# Altium footprint library vga.PcbLib: 95 footprints (part 7 of 7)
Each footprint in its own frame and in the unit in brackets; x right, y up, seen from the top. Pads: shape width x height; smd on the part's side, far side on the other; paste and mask are expansions set on the pad; w line width, h text height; cw(c..) or ccw(c..) is an arc to the next point about the centre after c.
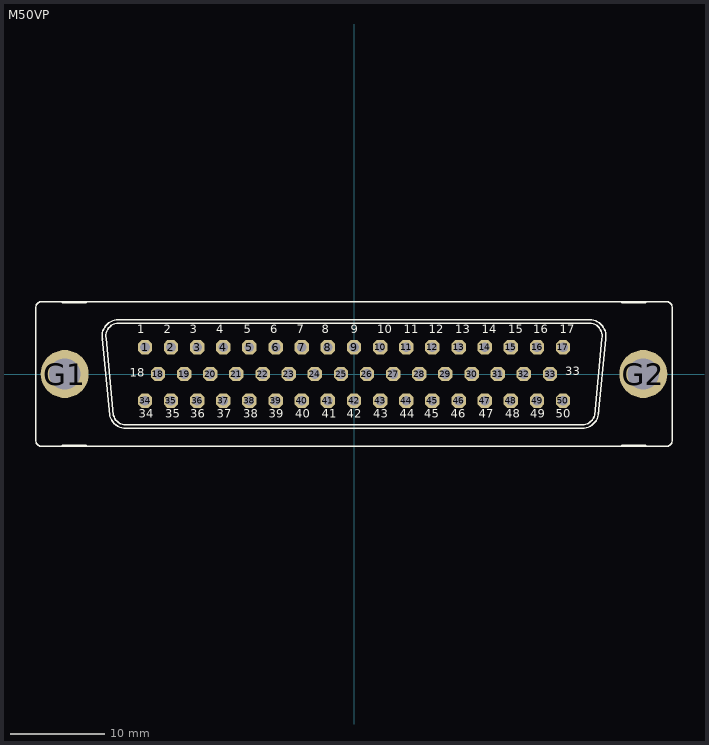
[diagram p6: the footprint, top view; thin cyan lines are the x and y axes]

## M50VP [mil]
pads (52):
  oct 60x60 hole 40: 1(-869,112) 2(-761,112) 3(-652,112) 4(-543,112) 5(-435,112) 6(-326,112) 7(-217,112) 8(-109,112) 9(0,112) 10(109,112) 11(217,112) 12(326,112) 13(435,112) 14(543,112) 15(652,112) 16(761,112) 17(869,112) 18(-815,0) 19(-706,0) 20(-598,0) 21(-489,0) 22(-380,0) 23(-272,0) 24(-163,0) 25(-54,0) 26(54,0) 27(163,0) 28(272,0) 29(380,0) 30(489,0) 31(598,0) 32(706,0) 33(815,0) 34(-869,-112) 35(-761,-112) 36(-652,-112) 37(-543,-112) 38(-435,-112) 39(-326,-112) 40(-217,-112) 41(-109,-112) 42(0,-112) 43(109,-112) 44(217,-112) 45(326,-112) 46(435,-112) 47(543,-112) 48(652,-112) 49(761,-112) 50(869,-112)
  round 200 hole 130: G1(-1203,0) G2(1203,0)
Top Overlay:
  circle w6: c-1203,0 r65
  circle w6: c1203,0 r65
  lines w6: -1046,148 -1015,-172 ; -1045.68,145 cw(c-979.14,158.17) -979,226 979,226 cw(c979.29,158.03) 1046,145 ; -1031,148 -1000,-172 ; -1030.97,148 cw(c-979.16,158.2) -979,211 979,211 cw(c979.22,158.06) 1031,147 1000,-171 ; -1016.4,-166.99 ccw(c-949,-158) -949,-226 949,-226 ccw(c949.04,-157.94) 1017,-161.7 ; -1000.3,-171.33 ccw(c-949,-158) -949,-211 949,-211 ccw(c949.23,-157.7) 1001,-170.37 ; 1016,-169 1046,147 ; -1213,-301 -1213,-296 -1113,-296 -1113,-301 ; -1213,-301 -1113,-301 ; -1213,-301 -1298,-301 cw(c-1298,-276) -1323,-276 -1323,276 cw(c-1298,276) -1298,301 -1213,301 ; -1213,301 -1213,296 -1113,296 -1113,301 ; -1213,301 -1113,301 ; -1113,-301 1113,-301 ; -1113,301 1113,301 ; 1113,-301 1113,-296 1213,-296 1213,-301 ; 1113,-301 1213,-301 ; 1113,301 1113,296 1213,296 1213,301 ; 1113,301 1213,301 ; 1213,-301 1298,-301 ccw(c1298,-276) 1323,-276 1323,276 ccw(c1298,276) 1298,301 1213,301
  text "9" at -14,156 h60.45
  text "42" at -30,-194 h60.45
  text "17" at 856,156 h60.45
  text "16" at 746,156 h60.45
  text "15" at 641,156 h60.45
  text "14" at 531,156 h60.45
  text "13" at 421,156 h60.45
  text "12" at 311,156 h60.45
  text "11" at 206,156 h60.45
  text "10" at 96,156 h60.45
  text "8" at -134,156 h60.45
  text "7" at -239,156 h60.45
  text "6" at -349,156 h60.45
  text "5" at -459,156 h60.45
  text "4" at -572,157 h60.45
  text "3" at -682,157 h60.45
  text "2" at -792,157 h60.45
  text "1" at -902,157 h60.45
  text "18" at -932,-23 h60.45
  text "33" at 878,-18 h60.45
  text "34" at -895,-194 h60.45
  text "35" at -785,-194 h60.45
  text "36" at -680,-194 h60.45
  text "37" at -570,-194 h60.45
  text "38" at -460,-194 h60.45
  text "39" at -355,-194 h60.45
  text "40" at -245,-194 h60.45
  text "41" at -135,-194 h60.45
  text "43" at 80,-194 h60.45
  text "44" at 190,-194 h60.45
  text "45" at 293,-194 h60.45
  text "46" at 403,-194 h60.45
  text "47" at 518,-194 h60.45
  text "48" at 628,-194 h60.45
  text "49" at 733,-194 h60.45
  text "50" at 838,-194 h60.45
Mechanical 2:
  text ">NAME" at -1318,331 h108.5
Mechanical 4:
  text ">VALUE" at -100,331 h108.5
Mechanical 16:
  circle w16: c-109,112 r10
  circle w16: c-163,0 r10
  circle w16: c-217,112 r10
  circle w16: c0,112 r10
  circle w16: c-54,0 r10
  circle w16: c54,0 r10
  circle w16: c109,112 r10
  circle w16: c217,112 r10
  circle w16: c163,0 r10
  circle w16: c272,0 r10
  circle w16: c326,112 r10
  circle w16: c380,0 r10
  circle w16: c435,112 r10
  circle w16: c489,0 r10
  circle w16: c543,112 r10
  circle w16: c652,112 r10
  circle w16: c598,0 r10
  circle w16: c-326,112 r10
  circle w16: c-272,0 r10
  circle w16: c-380,0 r10
  circle w16: c-435,112 r10
  circle w16: c-543,112 r10
  circle w16: c-652,112 r10
  circle w16: c-489,0 r10
  circle w16: c-598,0 r10
  circle w16: c761,112 r10
  circle w16: c869,112 r10
  circle w16: c706,0 r10
  circle w16: c815,0 r10
  circle w16: c-761,112 r10
  circle w16: c-869,112 r10
  circle w16: c-706,0 r10
  circle w16: c-815,0 r10
  circle w16: c-109,-112 r10
  circle w16: c-217,-112 r10
  circle w16: c0,-112 r10
  circle w16: c109,-112 r10
  circle w16: c217,-112 r10
  circle w16: c326,-112 r10
  circle w16: c435,-112 r10
  circle w16: c543,-112 r10
  circle w16: c652,-112 r10
  circle w16: c-326,-112 r10
  circle w16: c-435,-112 r10
  circle w16: c-543,-112 r10
  circle w16: c-652,-112 r10
  circle w16: c761,-112 r10
  circle w16: c869,-112 r10
  circle w16: c-761,-112 r10
  circle w16: c-869,-112 r10